# Altium schematic symbol library ECG2.0_1.SCHLIB: 21 symbols
Pins are listed as number, name and electrical type; pins without a type are passive.

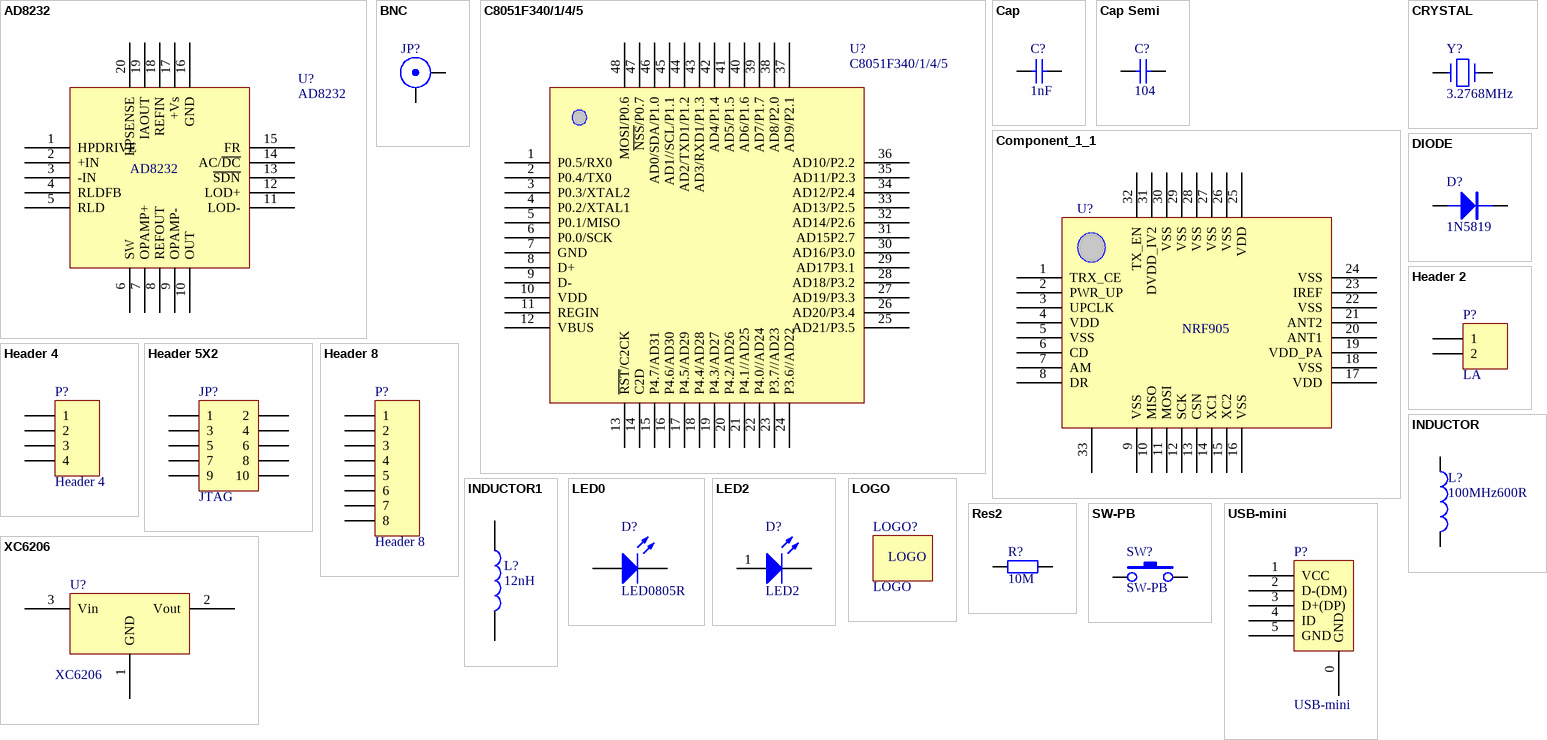
[diagram p0: symbols AD8232 to XC6206]

## AD8232
designator U?
footprint QFN-20
pins: 1 HPDRIVE, 2 +IN, 3 -IN, 4 RLDFB, 5 RLD, 6 SW, 7 OPAMP+, 8 REFOUT, 9 OPAMP-, 10 OUT, 11 LOD-, 12 LOD+, 13 ~{SDN}, 14 AC/~{DC}, 15 FR, 16 GND, 17 +Vs, 18 REFIN, 19 IAOUT, 20 HPSENSE

## BNC
designator JP?
footprint SMA (Connector; RF Coaxial, MCX, Thru-Hole; 5 Position; Right-Angle)
pins: 1, 2

## C8051F340/1/4/5
designator U?
footprint TQFP48_M (48-Pin Thin Quad Flat Pack 0.5 mm Pitch, IPC Low Density)
pins: 1 P0.5/RX0, 2 P0.4/TX0, 3 P0.3/XTAL2, 4 P0.2/XTAL1, 5 P0.1/MISO, 6 P0.0/SCK, 7 GND, 8 D+, 9 D-, 10 VDD, 11 REGIN, 12 VBUS, 13 ~{RST}/C2CK, 14 C2D, 15 P4.7/AD31, 16 P4.6/AD30, 17 P4.5/AD29, 18 P4.4/AD28, 19 P4.3/AD27, 20 P4.2/AD26, 21 P4.1//AD25, 22 P4.0//AD24, 23 P3.7//AD23, 24 P3.6//AD22, 25 AD21/P3.5, 26 AD20/P3.4, 27 AD19/P3.3, 28 AD18/P3.2, 29 AD17P3.1, 30 AD16/P3.0, 31 AD15P2.7, 32 AD14/P2.6, 33 AD13/P2.5, 34 AD12/P2.4, 35 AD11/P2.3, 36 AD10/P2.2, 37 AD9/P2.1, 38 AD8/P2.0, 39 AD7/P1.7, 40 AD6/P1.6, 41 AD5/P1.5, 42 AD4/P1.4, 43 AD3/RXD1/P1.3, 44 AD2/TXD1/P1.2, 45 AD1//SCL/P1.1, 46 AD0/SDA/P1.0, 47 ~{NSS}/P0.7, 48 MOSI/P0.6

## Cap
designator C?, comment 1nF
Capacitor; Value: 75nF; Published: 8-Jun-2000; LatestRevisionDate: 17-Jul-2002; LatestRevisionNote: Re-released for DXP Platform.; PackageReference: RAD-0.3; Publisher: Altium Limited; PackageDescription: Radial Cap, Thru-Hole; 2 Leads; 0.3 in Pin Spacing
footprint RAD-0.3 (Radial Cap, Thru-Hole; 2 Leads; 0.3 in Pin Spacing)
simulation model CAP (Capacitor)
signal-integrity model Cap
footprint RAD-0.2
footprint C2
footprint C1
footprint 0603C
pins: 1, 2

## Cap Semi
designator C?, comment 104
Capacitor (Semiconductor SIM Model); Published: 8-Jun-2000; LatestRevisionDate: 29-May-2009; LatestRevisionNote: IPC-7351 Footprint Added.; PackageReference: C1206; Publisher: Altium Limited; PackageDescription: Chip Capacitor; Value: 104
footprint CAPC3216L (Chip Capacitor, Body 3.2x1.6mm, IPC High Density)
footprint CAPC1005L (Chip Capacitor, Body 1.0x0.5mm, IPC High Density)
footprint CAPC2512L (Chip Capacitor, Body 2.54x1.27mm, IPC High Density)
footprint CAPC1608L (Chip Capacitor, Body 1.6x0.8mm, IPC High Density)
footprint CAPC3225L (Chip Capacitor, Body 3.2x2.5mm, IPC High Density)
simulation model CAP (Semiconductor Capacitor)
signal-integrity model Cap Semi
footprint CC2012-0805
footprint 0603C
pins: 1, 2

## Component_1_1
designator U?, comment NRF905
footprint QFN32_M (QFN, 32-Leads, Body 5x5mm, Pitch 0.5mm, IPC Low Density)
pins: 1 TRX_CE, 2 PWR_UP, 3 UPCLK, 4 VDD, 5 VSS, 6 CD, 7 AM, 8 DR, 9 VSS, 10 MISO, 11 MOSI, 12 SCK, 13 CSN, 14 XC1, 15 XC2, 16 VSS, 17 VDD, 18 VSS, 19 VDD_PA, 20 ANT1, 21 ANT2, 22 VSS, 23 IREF, 24 VSS, 25 VDD, 26 VSS, 27 VSS, 28 VSS, 29 VSS, 30 VSS, 31 DVDD_IV2, 32 TX_EN, 33

## CRYSTAL
designator Y?, comment 3.2768MHz
footprint CY2
pins: 1, 2

## DIODE
designator D?, comment 1N5819
footprint 3528-D
footprint 3516-D
footprint 2215
footprint DIODE0.4
footprint SOD-323 (SOD-323/SC-76; 2 Leads; Body 1.7 x 1.3 mm, (LxW)); pin to pad A>2 K>1
footprint SOD-323 (SOD-323/SC-76; 2 Leads; Body 1.7 x 1.3 mm, (LxW)); pin to pad A>1 K>2
pins: A, K

## Header 2
designator P?, comment LA
Header, 2-Pin; LatestRevisionDate: 17-Jul-2002; LatestRevisionNote: Re-released for DXP Platform.; Publisher: Altium Limited
footprint SIP2
signal-integrity model Connector
pins: 1, 2

## Header 4
designator P?
Header, 4-Pin; LatestRevisionDate: 17-Jul-2002; LatestRevisionNote: Re-released for DXP Platform.; Publisher: Altium Limited
footprint SIP4
signal-integrity model Connector
pins: 1, 2, 3, 4

## Header 5X2
designator JP?, comment JTAG
Header, 5-Pin, Dual row; LatestRevisionDate: 17-Jul-2002; LatestRevisionNote: Re-released for DXP Platform.; Publisher: Altium Limited
footprint IDC10L
signal-integrity model Connector
pins: 1, 2, 3, 4, 5, 6, 7, 8, 9, 10

## Header 8
designator P?
Header, 8-Pin; LatestRevisionDate: 17-Jul-2002; LatestRevisionNote: Re-released for DXP Platform.; Publisher: Altium Limited
footprint SIP8
signal-integrity model Connector
pins: 1, 2, 3, 4, 5, 6, 7, 8

## INDUCTOR
designator L?, comment 100MHz600R
footprint 0603C
pins: 1, 2

## INDUCTOR1
designator L?, comment 12nH
footprint 0603
pins: 1, 2

## LED0
designator D?, comment LED0805R
Typical INFRARED GaAs LED; Published: 8-Jun-2000; LatestRevisionDate: 08-Jul-2005; LatestRevisionNote: Mech Layer 1 removed.; PackageReference: LED-0; Publisher: Altium Limited; PackageDescription: LED; 2 Leads
footprint LED-0 (LED; 2 Leads)
simulation model LED0 (Diode)
footprint LED0805R
pins: 1 A, 2 K

## LED2
designator D?
Typical RED, GREEN, YELLOW, AMBER GaAs LED; Published: 8-Jun-2000; LatestRevisionDate: 17-Jul-2002; LatestRevisionNote: Re-released for DXP Platform.; PackageVersion: Feb-2002; PackageReference: 3.2X1.6X1.1; Publisher: Altium Limited
footprint 0603-D; pin to pad 1>A 2>K
simulation model LED2 (Diode)
pins: 1 A, 2 K

## LOGO
designator LOGO?
footprint LOGO-G

## Res2
designator R?, comment 10M
Resistor; Value: 16K; Published: 8-Jun-2000; LatestRevisionDate: 17-Jul-2002; LatestRevisionNote: Re-released for DXP Platform.; PackageReference: AXIAL-0.4; Publisher: Altium Limited; PackageDescription: Axial Device, Thru-Hole; 2 Leads; 0.4 in Pin Spacing
footprint AXIAL-0.3 (Axial Device, Thru-Hole; 2 Leads; 0.3 in Pin Spacing)
simulation model RESISTOR (Resistor)
signal-integrity model Res
footprint 0603R
pins: 1, 2

## SW-PB
designator SW?
footprint SW-BP-SMD
footprint SW-BP-SMD
pins: 1, 2

## USB-mini
designator P?
footprint USB-Micro
pins: 0 GND, 1 VCC, 2 D-(DM), 3 D+(DP), 4 ID, 5 GND

## XC6206
designator U?
footprint TO-220
footprint SOT-23-123
pins: 1 GND, 2 Vout, 3 Vin